# Altium schematic symbol library Components - 04.08.24 - 00.SchLib: 1 symbol
Pins are listed as number, name and electrical type; pins without a type are passive.

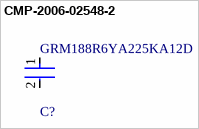
[diagram p0: symbol CMP-2006-02548-2]

## CMP-2006-02548-2
designator C?, comment GRM188R6YA225KA12D
Chip Multilayer Ceramic Capacitors for General Purpose, 0603, 2.2uF, X5R, 15%, 10%, 35V; REACH SVHC: No SVHC; Weight: 0.000222oz; Thickness: 0.035inch; Height: 0.8mm; Voltage Rating: 35V; Lead Free: Lead Free; Mount: Surface Mount; Material: Ceramic; Package Quantity: 4000; Capacitance: 2.2uF; Length: 1.6mm; Packaging: Tape and Reel; Case/Package: 0603; Min Operating Temperature: -55°C; Case Code (Metric): 1608; Voltage: 35V; Tolerance: 10%; Max Operating Temperature: 85°C; Depth: 0.8mm; Width: 0.8mm; Case Code (Imperial): 0603; Voltage Rating (DC): 35V; Termination: SMD/SMT; Dielectric: X5R
footprint FP-GRM188-0_1-e0_2_0_5-IPC_A
footprint FP-GRM188-0_1-e0_2_0_5-IPC_B
footprint FP-GRM188-0_1-e0_2_0_5-MFG
footprint FP-GRM188-0_1-e0_2_0_5-IPC_C
pins: 1, 2